# EAGLE library part MF_BGA60 (library akita)
Minimal Fab's Minimal Wafer: Minimal BGA package
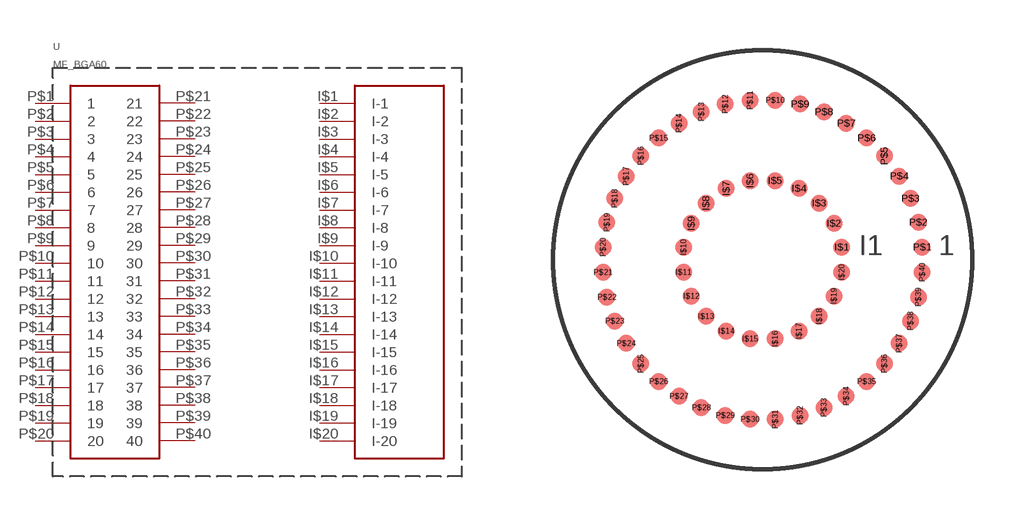
[diagram p73: symbol with the pads of MF_BGA60; footprint MF_BGA60]

Designator prefix U

## MF_BGA60  [MF_BGA60]
I$1  I-1
I$2  I-2
I$3  I-3
I$4  I-4
I$5  I-5
I$6  I-6
I$7  I-7
I$8  I-8
I$9  I-9
I$10  I-10
I$11  I-11
I$12  I-12
I$13  I-13
I$14  I-14
I$15  I-15
I$16  I-16
I$17  I-17
I$18  I-18
I$19  I-19
I$20  I-20
P$1  1
P$2  2
P$3  3
P$4  4
P$5  5
P$6  6
P$7  7
P$8  8
P$9  9
P$10  10
P$11  11
P$12  12
P$13  13
P$14  14
P$15  15
P$16  16
P$17  17
P$18  18
P$19  19
P$20  20
P$21  21
P$22  22
P$23  23
P$24  24
P$25  25
P$26  26
P$27  27
P$28  28
P$29  29
P$30  30
P$31  31
P$32  32
P$33  33
P$34  34
P$35  35
P$36  36
P$37  37
P$38  38
P$39  39
P$40  40

## Footprint MF_BGA60 (pad centres in mm)
Minimal Wafer BGA 60p package
smd 0.5 x 0.5: I$1 2.358,0.373; I$2 2.127,1.084; I$3 1.688,1.688; I$4 1.084,2.127; I$5 0.373,2.358; I$6 -0.373,2.358; I$7 -1.084,2.127; I$8 -1.688,1.688; I$9 -2.127,1.084; I$10 -2.358,0.373; I$11 -2.358,-0.373; I$12 -2.127,-1.084; I$13 -1.688,-1.688; I$14 -1.084,-2.127; I$15 -0.373,-2.358; I$16 0.373,-2.358; I$17 1.084,-2.127; I$18 1.688,-1.688; I$19 2.127,-1.084; I$20 2.358,-0.373; P$1 4.76,0.375; P$2 4.643,1.115; P$3 4.411,1.827; P$4 4.071,2.495; P$5 3.631,3.101; P$6 3.101,3.631; P$7 2.495,4.071; P$8 1.827,4.411; P$9 1.115,4.643; P$10 0.375,4.76; P$11 -0.375,4.76; P$12 -1.115,4.643; P$13 -1.827,4.411; P$14 -2.495,4.071; P$15 -3.101,3.631; P$16 -3.631,3.101; P$17 -4.071,2.495; P$18 -4.411,1.827; P$19 -4.643,1.115; P$20 -4.76,0.375; P$21 -4.76,-0.375; P$22 -4.643,-1.115; P$23 -4.411,-1.827; P$24 -4.071,-2.495; P$25 -3.631,-3.101; P$26 -3.101,-3.631; P$27 -2.495,-4.071; P$28 -1.827,-4.411; P$29 -1.115,-4.643; P$30 -0.375,-4.76; P$31 0.375,-4.76; P$32 1.115,-4.643; P$33 1.827,-4.411; P$34 2.495,-4.071; P$35 3.101,-3.631; P$36 3.631,-3.101; P$37 4.071,-2.495; P$38 4.411,-1.827; P$39 4.643,-1.115; P$40 4.76,-0.375